# EAGLE library part MAX2640 (library OSSI)
MAX2640 ultra-low-noise amplifiers operating frequency: 300MHz to 2500MHz +2.7V to +5.5V Single-Supply Operation Low 3.5mA Supply Current
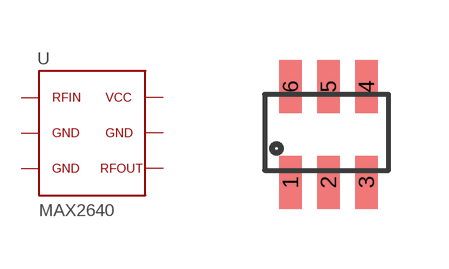
[diagram p22: symbol with the pads of SOT23-6; footprint SOT23-6]

Designator prefix U

## MAX2640  [SOT23-6]
1  1
2  2  pwr
3  3  pwr
4  4  out
5  5  pwr
6  6  pwr

## Footprint SOT23-6 (pad centres in mm)
SOT23-6
smd 0.56 x 1.33: 1 -0.95,-1.2; 2 0,-1.2; 3 0.95,-1.2; 4 0.95,1.2; 5 0,1.2; 6 -0.95,1.2